# EAGLE library part RCD-48 (library SKAARHOJ)
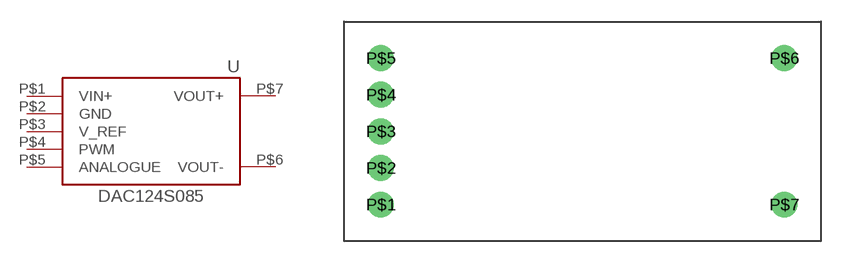
[diagram p31: symbol with the pads of RCD-48; footprint RCD-48]

Designator prefix -

## RCD-48  [RCD-48]
P$1  VIN+  pwr
P$2  GND  pwr
P$3  V_REF  out
P$4  PWM  in
P$5  ANALOGUE  in
P$6  VOUT-  pwr
P$7  VOUT+  pwr

## Footprint RCD-48 (pad centres in mm)
drill 1.2: P$1 -15.24,-5.08; P$2 -15.24,-2.54; P$3 -15.24,0; P$4 -15.24,2.54; P$5 -15.24,5.08; P$6 12.7,5.08; P$7 12.7,-5.08